# Altium footprint library PTSM.PcbLib: 3 footprints
Each footprint in its own frame and in the unit in brackets; x right, y up, seen from the top. Pads: shape width x height; smd on the part's side, far side on the other; paste and mask are expansions set on the pad; w line width, h text height; cw(c..) or ccw(c..) is an arc to the next point about the centre after c.
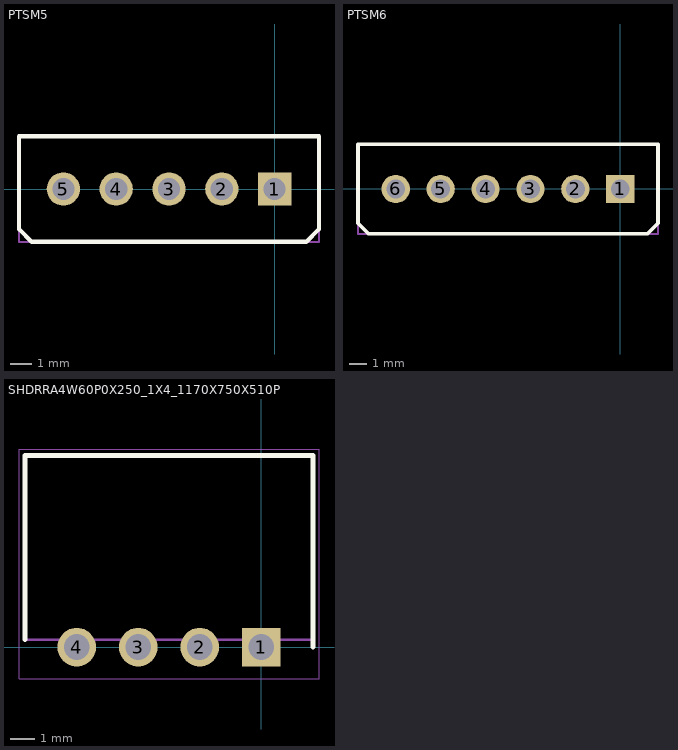
[diagram p0: the footprints below, top view; thin cyan lines are the x and y axes]

## PTSM5 [mm]
pads (5):
  rect 1.575x1.575 / inner round 1.575 / far side rect 1.575x1.575 hole 1.05: 1(0,0)
  round 1.575 hole 1.05: 2(-2.5,0) 3(-5,0) 4(-7.5,0) 5(-10,0)
Top Overlay:
  lines w0.2: -12.1,-1.9 -11.5,-2.5 1.5,-2.5 2.1,-1.9 2.1,2.5 -12.1,2.5 -12.1,-1.9
Mechanical 15:
  lines w0.1: -12.1,-2.5 2.1,-2.5 2.1,2.5 -12.1,2.5 -12.1,-2.5
3D body "1778586.stp": height 7.5, standoff -2.1, extent -12.11,-2.5 2.11,2.5

## PTSM6 [mm]
pads (6):
  rect 1.575x1.575 / inner round 1.575 / far side rect 1.575x1.575 hole 1.05: 1(0,0)
  round 1.575 hole 1.05: 2(-2.5,0) 3(-5,0) 4(-7.5,0) 5(-10,0) 6(-12.5,0)
Top Overlay:
  lines w0.2: -14.6,-1.9 -14,-2.5 1.5,-2.5 2.1,-1.9 2.1,2.5 -14.6,2.5 -14.6,-1.9
Mechanical 15:
  lines w0.1: -14.6,-2.5 2.1,-2.5 2.1,2.5 -14.6,2.5 -14.6,-2.5
3D body "1778599.stp": height 7.5, standoff -2.1, extent -14.62,-2.5 2.1,2.5

## SHDRRA4W60P0X250_1X4_1170X750X510P [mm]
pads (4):
  rect 1.575x1.575 / inner round 1.575 / far side rect 1.575x1.575 hole 1.05: 1(0,0)
  round 1.575 hole 1.05: 2(-2.5,0) 3(-5,0) 4(-7.5,0)
Top Overlay:
  lines w0.2: -9.6,0.3 -9.6,7.8 2.1,7.8 2.1,0
Mechanical 15:
  lines w0.1: -9.6,0.3 -9.6,7.8 2.1,7.8 2.1,0.3 -9.6,0.3
Mechanical 20:
  lines w0.05: -9.85,-1.288 -9.85,8.05 2.35,8.05 2.35,-1.288 -9.85,-1.288
3D body "1778641.stp": height 5.02, standoff -2.1, extent -9.554,-0.3 2.166,7.2